# Altium integrated library P-MOSFET  SI2301.IntLib: 1 symbol
Pins are listed as number, name and electrical type; pins without a type are passive.

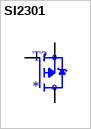
[diagram p0: symbol SI2301]

## SI2301
designator T?
MOSFET P-CH 20V 2.2A SOT23-3; MF: Micro Commercial Components (MCC); MP: SI2301; SnapEDA_Link: https://www.snapeda.com/parts/SI2301/Micro+Commercial+Components/view-part/?ref=snap; Package: SOT-23 MCC; Value: *; Check_prices: https://www.snapeda.com/parts/SI2301/Micro+Commercial+Components/view-part/?ref=eda
footprint DESTO_SOT23
pins: 1 G, 2 S, 3 D